# Altium integrated library Linear Technology Power Management LED Driver ICs.IntLib: 490 symbols (part 18 of 48)
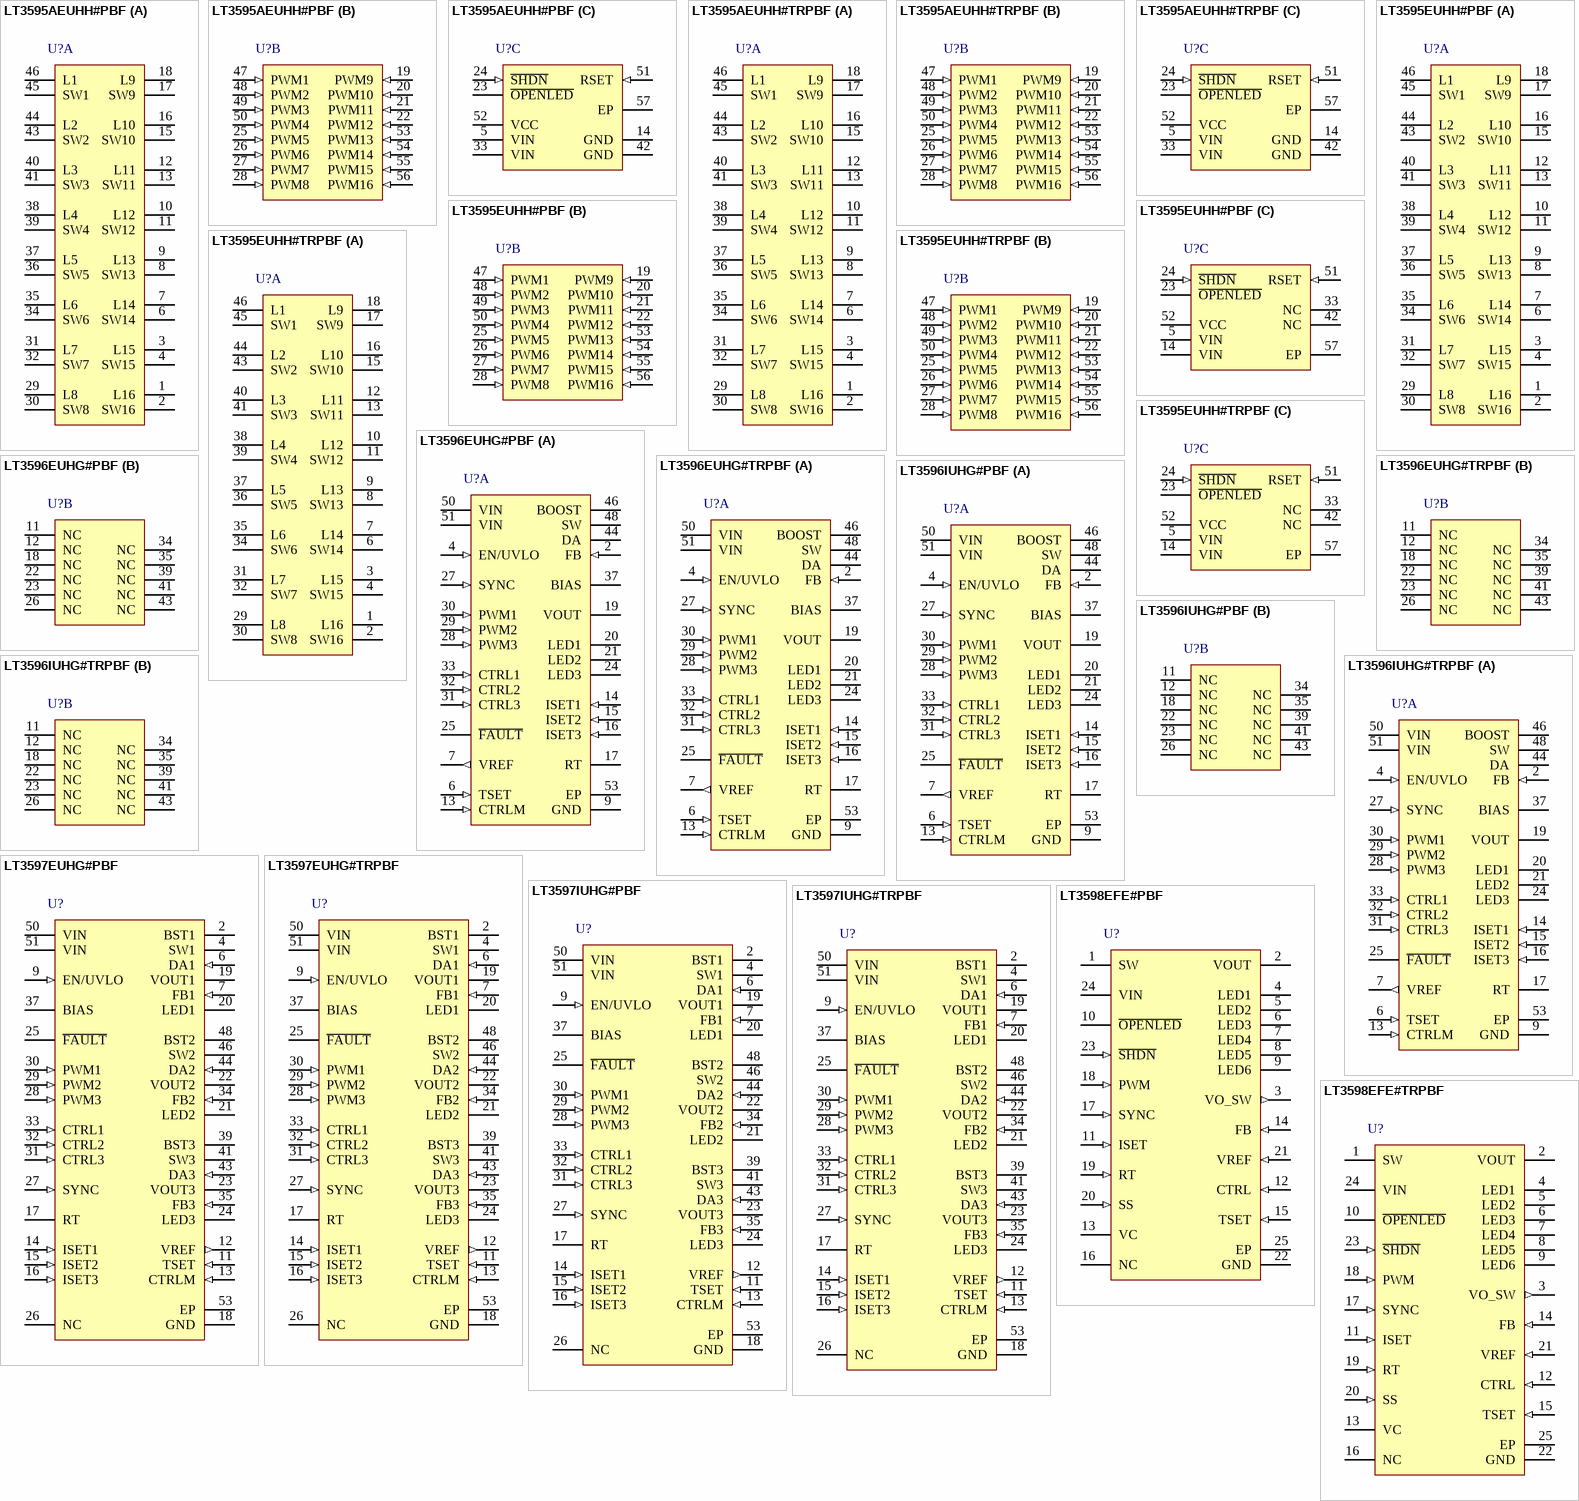
[diagram p37: symbols LT3595AEUHH#PBF to LT3598EFE#TRPBF]

## LT3596IUHG#PBF
designator U?
Step-Down LED Driver, 6 to 60 V Vin, 60 V Vout MAX, 39-pin QFN (UHG-52-V-UHG52 (39)), -40 to 125 degC, Pb-Free; Manufacturer: Linear Technology; PartNumber: LT3596IUHG#PBF; Topology: Buck, LED Driver; Vin Min(V): 6; DatasheetVersion: Rev. A; PackageVersion: Rev. B, 06/2010; PackageReference: UHG-52; PackageDescription: 39-Pin Plastic QFN, Body 5 x 8 mm; Supplier 1: Digi-Key; Supplier Part Number 1: LT3596IUHG#PBF-ND; RoHS: TRUE; Mounting Technology: Surface Mount; ComponentLink1Description: Manufacturer URL; ComponentLink1URL: http://www.linear.com/; ComponentLink2Description: Datasheet; ComponentLink2URL: http://cds.linear.com/docs/en/datasheet/3596fa.pdf; ComponentLink3Description: Package Specification; ComponentLink3URL: http://cds.linear.com/docs/en/packaging/QFN_52_05-08-1846.pdf
footprint LT-UHG-52-V-UHG52 (39)_N (QFN, 39-Leads, Body 8.1x5.1mm, Thermal Pad 5.9x2.9mm, IPC Medium Density)
footprint LT-UHG-52-V-UHG52 (39)_L (QFN, 39-Leads, Body 8.1x5.1mm, Thermal Pad 5.9x2.9mm, IPC High Density)
footprint LT-UHG-52-V-UHG52 (39)_M (QFN, 39-Leads, Body 8.1x5.1mm, Thermal Pad 5.9x2.9mm, IPC Low Density)
part A pins: 2 FB (in) "Feedback Pin. This pin is regulated to the internal bandgap voltage. The maximum buck output voltage is set by connecting this pin to a resistor divider from VOUT.", 4 EN/UVLO (in) "Enable and Undervoltage Lockout Pin. Accurate 1.5V falling threshold. UVLO threshold is programmed by using a resistor divider from VIN.", 6 TSET (in) "Thermal Regulation Pin. Programs the LT3596 junction temperature at which LED current begins to derate.", 7 VREF (out) "2V Reference Output Pin. This pin sources up to 200uA and is used to program TSET and CTRLM.", 9 GND (power) "Ground Pin. This is the ground for both the IC and the switching converter. Exposed pad must be soldered to PCB ground.", 13 CTRLM (in) "Master Control Pin. LED current derating vs temperature is achievable for all channels if the voltage on CTRLM has a negative coefficient using an external NTC resistor divider from VREF .", 14 ISET1 (in) "LED Current Programming Pin. Resistor to ground programs full-scale LED current.", 15 ISET2 (in) "LED Current Programming Pin. Resistor to ground programs full-scale LED current.", 16 ISET3 (in) "LED Current Programming Pin. Resistor to ground programs full-scale LED current.", 17 RT "Switching Frequency Programming Pin. A resistor to ground programs switching frequency between 200kHz and 1MHz. For the SYNC function, choose the resistor to program a frequency 20% slower than the SYNC pulse frequency.", 19 VOUT (power) "Buck Output. This is the buck regulator output voltage sense into the IC.", 20 LED1 (oc) "Constant-Current Sink Pin. These are three LED driver outputs, each containing an open collector, constant current sink. All outputs are matched within +/-1.5% and are individually programmed up to 100mA using an external (See Datasheet)", 21 LED2 (oc) "Constant-Current Sink Pin. These are three LED driver outputs, each containing an open collector, constant current sink. All outputs are matched within +/-1.5% and are individually programmed up to 100mA using an external (See Datasheet)", 24 LED3 (oc) "Constant-Current Sink Pin. These are three LED driver outputs, each containing an open collector, constant current sink. All outputs are matched within +/-1.5% and are individually programmed up to 100mA using an external (See Datasheet)", 25 ~{FAULT} (oc) "Fault Detection Pin. Open-collector pin used to report open LED faults. FAULT must be externally pulled to a positive supply.", 27 SYNC (in) "External Clock Synchronization Pin. When an external clock drives this pin, the buck regulator is synchronized to that frequency. Frequency programmed by the RT pin resistor must be at least 20% slower than the SYNC pin (See Datasheet)", 28 PWM3 (in) "PWM Dimming Control Pin. When driven to a logic high, the LED1-3 current sink is enabled. Channels can be individually disabled by tying PWM1-3 to ground. If PWM dimming is not desired then the pin should be connected to (See Datasheet)", 29 PWM2 (in) "PWM Dimming Control Pin. When driven to a logic high, the LED1-3 current sink is enabled. Channels can be individually disabled by tying PWM1-3 to ground. If PWM dimming is not desired then the pin should be connected to (See Datasheet)", 30 PWM1 (in) "PWM Dimming Control Pin. When driven to a logic high, the LED1-3 current sink is enabled. Channels can be individually disabled by tying PWM1-3 to ground. If PWM dimming is not desired then the pin should be connected to (See Datasheet)", 31 CTRL3 (in) "Analog Dimming Control Pin. This pin is used to dim the LED current in an analog fashion. If the pin is tied to a voltage lower than 1.0V, it will linearly reduce the LED current. If unused the pin must be connected to VREF .", 32 CTRL2 (in) "Analog Dimming Control Pin. This pin is used to dim the LED current in an analog fashion. If the pin is tied to a voltage lower than 1.0V, it will linearly reduce the LED current. If unused the pin must be connected to VREF .", 33 CTRL1 (in) "Analog Dimming Control Pin. This pin is used to dim the LED current in an analog fashion. If the pin is tied to a voltage lower than 1.0V, it will linearly reduce the LED current. If unused the pin must be connected to VREF .", 37 BIAS (power) "Supply Pin. This pin is the supply for an internal voltage regulator for analog and digital circuitry. BIAS must be locally bypassed with a 4.7uF capacitor.", 44 DA "Catch Diode Anode. This pin is used to provide frequency foldback in extreme situations.", 46 BOOST "Boost Capacitor Pin. This pin is used to provide a voltage above the input voltage when the switch is on. It supplies current to the switch driver.", 48 SW (power) "Switch Pin. Connect the inductor, catch diode and boost capacitor to this pin.", 50 VIN (power) "Input Supply Pin. Pins are electrically connected inside the package. VIN must be locally bypassed with a 10uF capacitor to ground.", 51 VIN (power) "Input Supply Pin. Pins are electrically connected inside the package. VIN must be locally bypassed with a 10uF capacitor to ground.", 53 EP (power) "Ground Pin. This is the ground for both the IC and the switching converter. Exposed pad must be soldered to PCB ground."
part B pins: 11 NC "No Connection Pins. Tie to ground if unused.", 12 NC "No Connection Pins. Tie to ground if unused.", 18 NC "No Connection Pins. Tie to ground if unused.", 22 NC "No Connection Pins. Tie to ground if unused.", 23 NC "No Connection Pins. Tie to ground if unused.", 26 NC "No Connection Pins. Tie to ground if unused.", 34 NC "No Connection Pins. Tie to ground if unused.", 35 NC "No Connection Pins. Tie to ground if unused.", 39 NC "No Connection Pins. Tie to ground if unused.", 41 NC "No Connection Pins. Tie to ground if unused.", 43 NC "No Connection Pins. Tie to ground if unused."

## LT3596IUHG#TRPBF
designator U?
Step-Down LED Driver, 6 to 60 V Vin, 60 V Vout MAX, 39-pin QFN (UHG-52-V-UHG52 (39)), -40 to 125 degC, Pb-Free, Tape and Reel; Manufacturer: Linear Technology; PartNumber: LT3596IUHG#TRPBF; Topology: Buck, LED Driver; Vin Min(V): 6; DatasheetVersion: Rev. A; PackageVersion: Rev. B, 06/2010; PackageReference: UHG-52; PackageDescription: 39-Pin Plastic QFN, Body 5 x 8 mm; Supplier 1: Digi-Key; Supplier Part Number 1: LT3596IUHG#TRPBF-ND; Packing: Tape and Reel; RoHS: TRUE; Mounting Technology: Surface Mount; ComponentLink1Description: Manufacturer URL; ComponentLink1URL: http://www.linear.com/; ComponentLink2Description: Datasheet; ComponentLink2URL: http://cds.linear.com/docs/en/datasheet/3596fa.pdf; ComponentLink3Description: Package Specification; ComponentLink3URL: http://cds.linear.com/docs/en/packaging/QFN_52_05-08-1846.pdf
footprint LT-UHG-52-V-UHG52 (39)_N (QFN, 39-Leads, Body 8.1x5.1mm, Thermal Pad 5.9x2.9mm, IPC Medium Density)
footprint LT-UHG-52-V-UHG52 (39)_L (QFN, 39-Leads, Body 8.1x5.1mm, Thermal Pad 5.9x2.9mm, IPC High Density)
footprint LT-UHG-52-V-UHG52 (39)_M (QFN, 39-Leads, Body 8.1x5.1mm, Thermal Pad 5.9x2.9mm, IPC Low Density)
part A pins: 2 FB (in) "Feedback Pin. This pin is regulated to the internal bandgap voltage. The maximum buck output voltage is set by connecting this pin to a resistor divider from VOUT.", 4 EN/UVLO (in) "Enable and Undervoltage Lockout Pin. Accurate 1.5V falling threshold. UVLO threshold is programmed by using a resistor divider from VIN.", 6 TSET (in) "Thermal Regulation Pin. Programs the LT3596 junction temperature at which LED current begins to derate.", 7 VREF (out) "2V Reference Output Pin. This pin sources up to 200uA and is used to program TSET and CTRLM.", 9 GND (power) "Ground Pin. This is the ground for both the IC and the switching converter. Exposed pad must be soldered to PCB ground.", 13 CTRLM (in) "Master Control Pin. LED current derating vs temperature is achievable for all channels if the voltage on CTRLM has a negative coefficient using an external NTC resistor divider from VREF .", 14 ISET1 (in) "LED Current Programming Pin. Resistor to ground programs full-scale LED current.", 15 ISET2 (in) "LED Current Programming Pin. Resistor to ground programs full-scale LED current.", 16 ISET3 (in) "LED Current Programming Pin. Resistor to ground programs full-scale LED current.", 17 RT "Switching Frequency Programming Pin. A resistor to ground programs switching frequency between 200kHz and 1MHz. For the SYNC function, choose the resistor to program a frequency 20% slower than the SYNC pulse frequency.", 19 VOUT (power) "Buck Output. This is the buck regulator output voltage sense into the IC.", 20 LED1 (oc) "Constant-Current Sink Pin. These are three LED driver outputs, each containing an open collector, constant current sink. All outputs are matched within +/-1.5% and are individually programmed up to 100mA using an external (See Datasheet)", 21 LED2 (oc) "Constant-Current Sink Pin. These are three LED driver outputs, each containing an open collector, constant current sink. All outputs are matched within +/-1.5% and are individually programmed up to 100mA using an external (See Datasheet)", 24 LED3 (oc) "Constant-Current Sink Pin. These are three LED driver outputs, each containing an open collector, constant current sink. All outputs are matched within +/-1.5% and are individually programmed up to 100mA using an external (See Datasheet)", 25 ~{FAULT} (oc) "Fault Detection Pin. Open-collector pin used to report open LED faults. FAULT must be externally pulled to a positive supply.", 27 SYNC (in) "External Clock Synchronization Pin. When an external clock drives this pin, the buck regulator is synchronized to that frequency. Frequency programmed by the RT pin resistor must be at least 20% slower than the SYNC pin (See Datasheet)", 28 PWM3 (in) "PWM Dimming Control Pin. When driven to a logic high, the LED1-3 current sink is enabled. Channels can be individually disabled by tying PWM1-3 to ground. If PWM dimming is not desired then the pin should be connected to (See Datasheet)", 29 PWM2 (in) "PWM Dimming Control Pin. When driven to a logic high, the LED1-3 current sink is enabled. Channels can be individually disabled by tying PWM1-3 to ground. If PWM dimming is not desired then the pin should be connected to (See Datasheet)", 30 PWM1 (in) "PWM Dimming Control Pin. When driven to a logic high, the LED1-3 current sink is enabled. Channels can be individually disabled by tying PWM1-3 to ground. If PWM dimming is not desired then the pin should be connected to (See Datasheet)", 31 CTRL3 (in) "Analog Dimming Control Pin. This pin is used to dim the LED current in an analog fashion. If the pin is tied to a voltage lower than 1.0V, it will linearly reduce the LED current. If unused the pin must be connected to VREF .", 32 CTRL2 (in) "Analog Dimming Control Pin. This pin is used to dim the LED current in an analog fashion. If the pin is tied to a voltage lower than 1.0V, it will linearly reduce the LED current. If unused the pin must be connected to VREF .", 33 CTRL1 (in) "Analog Dimming Control Pin. This pin is used to dim the LED current in an analog fashion. If the pin is tied to a voltage lower than 1.0V, it will linearly reduce the LED current. If unused the pin must be connected to VREF .", 37 BIAS (power) "Supply Pin. This pin is the supply for an internal voltage regulator for analog and digital circuitry. BIAS must be locally bypassed with a 4.7uF capacitor.", 44 DA "Catch Diode Anode. This pin is used to provide frequency foldback in extreme situations.", 46 BOOST "Boost Capacitor Pin. This pin is used to provide a voltage above the input voltage when the switch is on. It supplies current to the switch driver.", 48 SW (power) "Switch Pin. Connect the inductor, catch diode and boost capacitor to this pin.", 50 VIN (power) "Input Supply Pin. Pins are electrically connected inside the package. VIN must be locally bypassed with a 10uF capacitor to ground.", 51 VIN (power) "Input Supply Pin. Pins are electrically connected inside the package. VIN must be locally bypassed with a 10uF capacitor to ground.", 53 EP (power) "Ground Pin. This is the ground for both the IC and the switching converter. Exposed pad must be soldered to PCB ground."
part B pins: 11 NC "No Connection Pins. Tie to ground if unused.", 12 NC "No Connection Pins. Tie to ground if unused.", 18 NC "No Connection Pins. Tie to ground if unused.", 22 NC "No Connection Pins. Tie to ground if unused.", 23 NC "No Connection Pins. Tie to ground if unused.", 26 NC "No Connection Pins. Tie to ground if unused.", 34 NC "No Connection Pins. Tie to ground if unused.", 35 NC "No Connection Pins. Tie to ground if unused.", 39 NC "No Connection Pins. Tie to ground if unused.", 41 NC "No Connection Pins. Tie to ground if unused.", 43 NC "No Connection Pins. Tie to ground if unused."

## LT3597EUHG#PBF
designator U?
Triple Step-Down LED Driver, 6 to 60 V Vin, 60 V Vout MAX, 39-pin QFN (UHG-52-V-UHG52 (39)), -40 to 125 degC, Pb-Free; Manufacturer: Linear Technology; PartNumber: LT3597EUHG#PBF; Topology: Buck, LED Driver; Vin Min(V): 6; DatasheetVersion: Rev. A; PackageVersion: Rev. B, 06/2010; PackageReference: UHG-52; PackageDescription: 39-Pin Plastic QFN, Body 5 x 8 mm; Supplier 1: Digi-Key; Supplier Part Number 1: LT3597EUHG#PBF-ND; Supplier 2: Newark; Supplier Part Number 2: 59T5825; RoHS: TRUE; Mounting Technology: Surface Mount; ComponentLink1Description: Manufacturer URL; ComponentLink1URL: http://www.linear.com/; ComponentLink2Description: Datasheet; ComponentLink2URL: http://cds.linear.com/docs/en/datasheet/3597fa.pdf; ComponentLink3Description: Package Specification; ComponentLink3URL: http://cds.linear.com/docs/en/packaging/QFN_52_05-08-1846.pdf
footprint LT-UHG-52-V-UHG52 (39)_N (QFN, 39-Leads, Body 8.1x5.1mm, Thermal Pad 5.9x2.9mm, IPC Medium Density)
footprint LT-UHG-52-V-UHG52 (39)_L (QFN, 39-Leads, Body 8.1x5.1mm, Thermal Pad 5.9x2.9mm, IPC High Density)
footprint LT-UHG-52-V-UHG52 (39)_M (QFN, 39-Leads, Body 8.1x5.1mm, Thermal Pad 5.9x2.9mm, IPC Low Density)
pins: 2 BST1 "Boost Capacitor Pin. This pin is used to provide a voltage that is higher than the input voltage when the switch is on to supply current to the switch driver.", 4 SW1 (power) "Switch Pin. Connect the inductor, catch diode and boost capacitor to this pin.", 6 DA1 (in) "Catch Diode Anode. This pin is used to provide frequency foldback in extreme situations.", 7 FB1 (in) "Feedback Pin. This pin is regulated to the internal bandgap voltage. The maximum Buck output voltage can be set by connecting this pin to a resistor divider from VOUT1-3.", 9 EN/UVLO (in) "Enable and Undervoltage Lockout Pin. Accurate 1.51V threshold. UVLO threshold can be programmed by using a resistor divider from VIN. If function is not required, pin can be tied to the VIN pin.", 11 TSET (in) "Thermal Regulation Pin. Programs the LT3597 junction temperature at which LED current begins to derate.", 12 VREF (out) "2.0V Reference Output Pin. This pin can sources up to 200uA and can be used to program TSET and CTRLM.", 13 CTRLM (in) "Master Control Pin. LED current derating vs temperature is achievable for all channels if the voltage on CTRLM has a negative temperature coefficient using an external NTC resistor in a voltage divider from VREF", 14 ISET1 (in) "LED Current Programming Pin. A resistor to ground programs full-scale LED current.", 15 ISET2 (in) "LED Current Programming Pin. A resistor to ground programs full-scale LED current.", 16 ISET3 (in) "LED Current Programming Pin. A resistor to ground programs full-scale LED current.", 17 RT "Switching Frequency Programming Pin. A resistor to ground programs the switching frequency between 200kHz and 1MHz.", 18 GND (power) "Ground Pin. This is the ground for both the IC and the switching converters. Exposed pad must be soldered to PCB ground.", 19 VOUT1 (power) "Buck Output. This is the buck regulator output voltage sense into the IC.", 20 LED1 (oc) "Constant Current Sink Pin. These are 3 LED driver outputs, each containing an open collector, constant current sink. All outputs are matched within +/-2% and are individually programmed up to 100mA using an external resistor (See Datasheet)", 21 LED2 (oc) "Constant Current Sink Pin. These are 3 LED driver outputs, each containing an open collector, constant current sink. All outputs are matched within +/-2% and are individually programmed up to 100mA using an external resistor (See Datasheet)", 22 VOUT2 (power) "Buck Output. This is the buck regulator output voltage sense into the IC.", 23 VOUT3 (power) "Buck Output. This is the buck regulator output voltage sense into the IC.", 24 LED3 (oc) "Constant Current Sink Pin. These are 3 LED driver outputs, each containing an open collector, constant current sink. All outputs are matched within +/-2% and are individually programmed up to 100mA using an external resistor (See Datasheet)", 25 ~{FAULT} (oc) "Fault Detection Pin. Open collector pin used to report open LED faults. F\A\U\L\T\ must be externally pulled to a positive supply through a resistor.", 26 NC "No Connection Pin. Tie to ground.", 27 SYNC (in) "External Clock Synchronization Pin. When an external clock drives this pin, the Buck regulators are synchronized to that frequency. Frequency programmed by the RT pin resistor must be at least 20% less than the SYNC pin (See Datasheet)", 28 PWM3 (in) "PWM Dimming Control Pin. When driven to a logic high, the LED1-3 current sink is enabled. If PWM dimming is not desired, connect the pin to VREF. Channels can be individually disabled by tying PWM1-3 to ground.", 29 PWM2 (in) "PWM Dimming Control Pin. When driven to a logic high, the LED1-3 current sink is enabled. If PWM dimming is not desired, connect the pin to VREF. Channels can be individually disabled by tying PWM1-3 to ground.", 30 PWM1 (in) "PWM Dimming Control Pin. When driven to a logic high, the LED1-3 current sink is enabled. If PWM dimming is not desired, connect the pin to VREF. Channels can be individually disabled by tying PWM1-3 to ground.", 31 CTRL3 (in) "Analog Dimming Control Pin. This pin is used to dim the LED current in an analog fashion. If the pin is tied to a voltage lower than 1.0V, it will linearly reduce the LED current. If feature is unused, connect the pin to (See Datasheet)", 32 CTRL2 (in) "Analog Dimming Control Pin. This pin is used to dim the LED current in an analog fashion. If the pin is tied to a voltage lower than 1.0V, it will linearly reduce the LED current. If feature is unused, connect the pin to (See Datasheet)", 33 CTRL1 (in) "Analog Dimming Control Pin. This pin is used to dim the LED current in an analog fashion. If the pin is tied to a voltage lower than 1.0V, it will linearly reduce the LED current. If feature is unused, connect the pin to (See Datasheet)", 34 FB2 (in) "Feedback Pin. This pin is regulated to the internal bandgap voltage. The maximum Buck output voltage can be set by connecting this pin to a resistor divider from VOUT1-3.", 35 FB3 (in) "Feedback Pin. This pin is regulated to the internal bandgap voltage. The maximum Buck output voltage can be set by connecting this pin to a resistor divider from VOUT1-3.", 37 BIAS (power) "Supply Pin. This pin is the supply for an internal voltage regulator to internal analog and digital circuitry. BIAS must be locally bypassed with a 2.2uF capacitor.", 39 BST3 "Boost Capacitor Pin. This pin is used to provide a voltage that is higher than the input voltage when the switch is on to supply current to the switch driver.", 41 SW3 (power) "Switch Pin. Connect the inductor, catch diode and boost capacitor to this pin.", 43 DA3 (in) "Catch Diode Anode. This pin is used to provide frequency foldback in extreme situations.", 44 DA2 (in) "Catch Diode Anode. This pin is used to provide frequency foldback in extreme situations.", 46 SW2 (power) "Switch Pin. Connect the inductor, catch diode and boost capacitor to this pin.", 48 BST2 "Boost Capacitor Pin. This pin is used to provide a voltage that is higher than the input voltage when the switch is on to supply current to the switch driver.", 50 VIN (power) "Input Supply Pin. VIN must be locally bypassed with a 10uF capacitor to ground. Pins 50 and 51 are internally fused.", 51 VIN (power) "Input Supply Pin. VIN must be locally bypassed with a 10uF capacitor to ground. Pins 50 and 51 are internally fused.", 53 EP (power) "Ground Pin. This is the ground for both the IC and the switching converters. Exposed pad must be soldered to PCB ground."

## LT3597EUHG#TRPBF
designator U?
Triple Step-Down LED Driver, 6 to 60 V Vin, 60 V Vout MAX, 39-pin QFN (UHG-52-V-UHG52 (39)), -40 to 125 degC, Pb-Free, Tape and Reel; Manufacturer: Linear Technology; PartNumber: LT3597EUHG#TRPBF; Topology: Buck, LED Driver; Vin Min(V): 6; DatasheetVersion: Rev. A; PackageVersion: Rev. B, 06/2010; PackageReference: UHG-52; PackageDescription: 39-Pin Plastic QFN, Body 5 x 8 mm; Supplier 1: Digi-Key; Supplier Part Number 1: LT3597EUHG#TRPBF-ND; Packing: Tape and Reel; RoHS: TRUE; Mounting Technology: Surface Mount; ComponentLink1Description: Manufacturer URL; ComponentLink1URL: http://www.linear.com/; ComponentLink2Description: Datasheet; ComponentLink2URL: http://cds.linear.com/docs/en/datasheet/3597fa.pdf; ComponentLink3Description: Package Specification; ComponentLink3URL: http://cds.linear.com/docs/en/packaging/QFN_52_05-08-1846.pdf
footprint LT-UHG-52-V-UHG52 (39)_N (QFN, 39-Leads, Body 8.1x5.1mm, Thermal Pad 5.9x2.9mm, IPC Medium Density)
footprint LT-UHG-52-V-UHG52 (39)_L (QFN, 39-Leads, Body 8.1x5.1mm, Thermal Pad 5.9x2.9mm, IPC High Density)
footprint LT-UHG-52-V-UHG52 (39)_M (QFN, 39-Leads, Body 8.1x5.1mm, Thermal Pad 5.9x2.9mm, IPC Low Density)
pins: 2 BST1 "Boost Capacitor Pin. This pin is used to provide a voltage that is higher than the input voltage when the switch is on to supply current to the switch driver.", 4 SW1 (power) "Switch Pin. Connect the inductor, catch diode and boost capacitor to this pin.", 6 DA1 (in) "Catch Diode Anode. This pin is used to provide frequency foldback in extreme situations.", 7 FB1 (in) "Feedback Pin. This pin is regulated to the internal bandgap voltage. The maximum Buck output voltage can be set by connecting this pin to a resistor divider from VOUT1-3.", 9 EN/UVLO (in) "Enable and Undervoltage Lockout Pin. Accurate 1.51V threshold. UVLO threshold can be programmed by using a resistor divider from VIN. If function is not required, pin can be tied to the VIN pin.", 11 TSET (in) "Thermal Regulation Pin. Programs the LT3597 junction temperature at which LED current begins to derate.", 12 VREF (out) "2.0V Reference Output Pin. This pin can sources up to 200uA and can be used to program TSET and CTRLM.", 13 CTRLM (in) "Master Control Pin. LED current derating vs temperature is achievable for all channels if the voltage on CTRLM has a negative temperature coefficient using an external NTC resistor in a voltage divider from VREF", 14 ISET1 (in) "LED Current Programming Pin. A resistor to ground programs full-scale LED current.", 15 ISET2 (in) "LED Current Programming Pin. A resistor to ground programs full-scale LED current.", 16 ISET3 (in) "LED Current Programming Pin. A resistor to ground programs full-scale LED current.", 17 RT "Switching Frequency Programming Pin. A resistor to ground programs the switching frequency between 200kHz and 1MHz.", 18 GND (power) "Ground Pin. This is the ground for both the IC and the switching converters. Exposed pad must be soldered to PCB ground.", 19 VOUT1 (power) "Buck Output. This is the buck regulator output voltage sense into the IC.", 20 LED1 (oc) "Constant Current Sink Pin. These are 3 LED driver outputs, each containing an open collector, constant current sink. All outputs are matched within +/-2% and are individually programmed up to 100mA using an external resistor (See Datasheet)", 21 LED2 (oc) "Constant Current Sink Pin. These are 3 LED driver outputs, each containing an open collector, constant current sink. All outputs are matched within +/-2% and are individually programmed up to 100mA using an external resistor (See Datasheet)", 22 VOUT2 (power) "Buck Output. This is the buck regulator output voltage sense into the IC.", 23 VOUT3 (power) "Buck Output. This is the buck regulator output voltage sense into the IC.", 24 LED3 (oc) "Constant Current Sink Pin. These are 3 LED driver outputs, each containing an open collector, constant current sink. All outputs are matched within +/-2% and are individually programmed up to 100mA using an external resistor (See Datasheet)", 25 ~{FAULT} (oc) "Fault Detection Pin. Open collector pin used to report open LED faults. F\A\U\L\T\ must be externally pulled to a positive supply through a resistor.", 26 NC "No Connection Pin. Tie to ground.", 27 SYNC (in) "External Clock Synchronization Pin. When an external clock drives this pin, the Buck regulators are synchronized to that frequency. Frequency programmed by the RT pin resistor must be at least 20% less than the SYNC pin (See Datasheet)", 28 PWM3 (in) "PWM Dimming Control Pin. When driven to a logic high, the LED1-3 current sink is enabled. If PWM dimming is not desired, connect the pin to VREF. Channels can be individually disabled by tying PWM1-3 to ground.", 29 PWM2 (in) "PWM Dimming Control Pin. When driven to a logic high, the LED1-3 current sink is enabled. If PWM dimming is not desired, connect the pin to VREF. Channels can be individually disabled by tying PWM1-3 to ground.", 30 PWM1 (in) "PWM Dimming Control Pin. When driven to a logic high, the LED1-3 current sink is enabled. If PWM dimming is not desired, connect the pin to VREF. Channels can be individually disabled by tying PWM1-3 to ground.", 31 CTRL3 (in) "Analog Dimming Control Pin. This pin is used to dim the LED current in an analog fashion. If the pin is tied to a voltage lower than 1.0V, it will linearly reduce the LED current. If feature is unused, connect the pin to (See Datasheet)", 32 CTRL2 (in) "Analog Dimming Control Pin. This pin is used to dim the LED current in an analog fashion. If the pin is tied to a voltage lower than 1.0V, it will linearly reduce the LED current. If feature is unused, connect the pin to (See Datasheet)", 33 CTRL1 (in) "Analog Dimming Control Pin. This pin is used to dim the LED current in an analog fashion. If the pin is tied to a voltage lower than 1.0V, it will linearly reduce the LED current. If feature is unused, connect the pin to (See Datasheet)", 34 FB2 (in) "Feedback Pin. This pin is regulated to the internal bandgap voltage. The maximum Buck output voltage can be set by connecting this pin to a resistor divider from VOUT1-3.", 35 FB3 (in) "Feedback Pin. This pin is regulated to the internal bandgap voltage. The maximum Buck output voltage can be set by connecting this pin to a resistor divider from VOUT1-3.", 37 BIAS (power) "Supply Pin. This pin is the supply for an internal voltage regulator to internal analog and digital circuitry. BIAS must be locally bypassed with a 2.2uF capacitor.", 39 BST3 "Boost Capacitor Pin. This pin is used to provide a voltage that is higher than the input voltage when the switch is on to supply current to the switch driver.", 41 SW3 (power) "Switch Pin. Connect the inductor, catch diode and boost capacitor to this pin.", 43 DA3 (in) "Catch Diode Anode. This pin is used to provide frequency foldback in extreme situations.", 44 DA2 (in) "Catch Diode Anode. This pin is used to provide frequency foldback in extreme situations.", 46 SW2 (power) "Switch Pin. Connect the inductor, catch diode and boost capacitor to this pin.", 48 BST2 "Boost Capacitor Pin. This pin is used to provide a voltage that is higher than the input voltage when the switch is on to supply current to the switch driver.", 50 VIN (power) "Input Supply Pin. VIN must be locally bypassed with a 10uF capacitor to ground. Pins 50 and 51 are internally fused.", 51 VIN (power) "Input Supply Pin. VIN must be locally bypassed with a 10uF capacitor to ground. Pins 50 and 51 are internally fused.", 53 EP (power) "Ground Pin. This is the ground for both the IC and the switching converters. Exposed pad must be soldered to PCB ground."

## LT3597IUHG#PBF
designator U?
Triple Step-Down LED Driver, 6 to 60 V Vin, 60 V Vout MAX, 39-pin QFN (UHG-52-V-UHG52 (39)), -40 to 125 degC, Pb-Free; Manufacturer: Linear Technology; PartNumber: LT3597IUHG#PBF; Topology: Buck, LED Driver; Vin Min(V): 6; DatasheetVersion: Rev. A; PackageVersion: Rev. B, 06/2010; PackageReference: UHG-52; PackageDescription: 39-Pin Plastic QFN, Body 5 x 8 mm; Supplier 1: Digi-Key; Supplier Part Number 1: LT3597IUHG#PBF-ND; RoHS: TRUE; Mounting Technology: Surface Mount; ComponentLink1Description: Manufacturer URL; ComponentLink1URL: http://www.linear.com/; ComponentLink2Description: Datasheet; ComponentLink2URL: http://cds.linear.com/docs/en/datasheet/3597fa.pdf; ComponentLink3Description: Package Specification; ComponentLink3URL: http://cds.linear.com/docs/en/packaging/QFN_52_05-08-1846.pdf
footprint LT-UHG-52-V-UHG52 (39)_N (QFN, 39-Leads, Body 8.1x5.1mm, Thermal Pad 5.9x2.9mm, IPC Medium Density)
footprint LT-UHG-52-V-UHG52 (39)_L (QFN, 39-Leads, Body 8.1x5.1mm, Thermal Pad 5.9x2.9mm, IPC High Density)
footprint LT-UHG-52-V-UHG52 (39)_M (QFN, 39-Leads, Body 8.1x5.1mm, Thermal Pad 5.9x2.9mm, IPC Low Density)
pins: 2 BST1 "Boost Capacitor Pin. This pin is used to provide a voltage that is higher than the input voltage when the switch is on to supply current to the switch driver.", 4 SW1 (power) "Switch Pin. Connect the inductor, catch diode and boost capacitor to this pin.", 6 DA1 (in) "Catch Diode Anode. This pin is used to provide frequency foldback in extreme situations.", 7 FB1 (in) "Feedback Pin. This pin is regulated to the internal bandgap voltage. The maximum Buck output voltage can be set by connecting this pin to a resistor divider from VOUT1-3.", 9 EN/UVLO (in) "Enable and Undervoltage Lockout Pin. Accurate 1.51V threshold. UVLO threshold can be programmed by using a resistor divider from VIN. If function is not required, pin can be tied to the VIN pin.", 11 TSET (in) "Thermal Regulation Pin. Programs the LT3597 junction temperature at which LED current begins to derate.", 12 VREF (out) "2.0V Reference Output Pin. This pin can sources up to 200uA and can be used to program TSET and CTRLM.", 13 CTRLM (in) "Master Control Pin. LED current derating vs temperature is achievable for all channels if the voltage on CTRLM has a negative temperature coefficient using an external NTC resistor in a voltage divider from VREF", 14 ISET1 (in) "LED Current Programming Pin. A resistor to ground programs full-scale LED current.", 15 ISET2 (in) "LED Current Programming Pin. A resistor to ground programs full-scale LED current.", 16 ISET3 (in) "LED Current Programming Pin. A resistor to ground programs full-scale LED current.", 17 RT "Switching Frequency Programming Pin. A resistor to ground programs the switching frequency between 200kHz and 1MHz.", 18 GND (power) "Ground Pin. This is the ground for both the IC and the switching converters. Exposed pad must be soldered to PCB ground.", 19 VOUT1 (power) "Buck Output. This is the buck regulator output voltage sense into the IC.", 20 LED1 (oc) "Constant Current Sink Pin. These are 3 LED driver outputs, each containing an open collector, constant current sink. All outputs are matched within +/-2% and are individually programmed up to 100mA using an external resistor (See Datasheet)", 21 LED2 (oc) "Constant Current Sink Pin. These are 3 LED driver outputs, each containing an open collector, constant current sink. All outputs are matched within +/-2% and are individually programmed up to 100mA using an external resistor (See Datasheet)", 22 VOUT2 (power) "Buck Output. This is the buck regulator output voltage sense into the IC.", 23 VOUT3 (power) "Buck Output. This is the buck regulator output voltage sense into the IC.", 24 LED3 (oc) "Constant Current Sink Pin. These are 3 LED driver outputs, each containing an open collector, constant current sink. All outputs are matched within +/-2% and are individually programmed up to 100mA using an external resistor (See Datasheet)", 25 ~{FAULT} (oc) "Fault Detection Pin. Open collector pin used to report open LED faults. F\A\U\L\T\ must be externally pulled to a positive supply through a resistor.", 26 NC "No Connection Pin. Tie to ground.", 27 SYNC (in) "External Clock Synchronization Pin. When an external clock drives this pin, the Buck regulators are synchronized to that frequency. Frequency programmed by the RT pin resistor must be at least 20% less than the SYNC pin (See Datasheet)", 28 PWM3 (in) "PWM Dimming Control Pin. When driven to a logic high, the LED1-3 current sink is enabled. If PWM dimming is not desired, connect the pin to VREF. Channels can be individually disabled by tying PWM1-3 to ground.", 29 PWM2 (in) "PWM Dimming Control Pin. When driven to a logic high, the LED1-3 current sink is enabled. If PWM dimming is not desired, connect the pin to VREF. Channels can be individually disabled by tying PWM1-3 to ground.", 30 PWM1 (in) "PWM Dimming Control Pin. When driven to a logic high, the LED1-3 current sink is enabled. If PWM dimming is not desired, connect the pin to VREF. Channels can be individually disabled by tying PWM1-3 to ground.", 31 CTRL3 (in) "Analog Dimming Control Pin. This pin is used to dim the LED current in an analog fashion. If the pin is tied to a voltage lower than 1.0V, it will linearly reduce the LED current. If feature is unused, connect the pin to (See Datasheet)", 32 CTRL2 (in) "Analog Dimming Control Pin. This pin is used to dim the LED current in an analog fashion. If the pin is tied to a voltage lower than 1.0V, it will linearly reduce the LED current. If feature is unused, connect the pin to (See Datasheet)", 33 CTRL1 (in) "Analog Dimming Control Pin. This pin is used to dim the LED current in an analog fashion. If the pin is tied to a voltage lower than 1.0V, it will linearly reduce the LED current. If feature is unused, connect the pin to (See Datasheet)", 34 FB2 (in) "Feedback Pin. This pin is regulated to the internal bandgap voltage. The maximum Buck output voltage can be set by connecting this pin to a resistor divider from VOUT1-3.", 35 FB3 (in) "Feedback Pin. This pin is regulated to the internal bandgap voltage. The maximum Buck output voltage can be set by connecting this pin to a resistor divider from VOUT1-3.", 37 BIAS (power) "Supply Pin. This pin is the supply for an internal voltage regulator to internal analog and digital circuitry. BIAS must be locally bypassed with a 2.2uF capacitor.", 39 BST3 "Boost Capacitor Pin. This pin is used to provide a voltage that is higher than the input voltage when the switch is on to supply current to the switch driver.", 41 SW3 (power) "Switch Pin. Connect the inductor, catch diode and boost capacitor to this pin.", 43 DA3 (in) "Catch Diode Anode. This pin is used to provide frequency foldback in extreme situations.", 44 DA2 (in) "Catch Diode Anode. This pin is used to provide frequency foldback in extreme situations.", 46 SW2 (power) "Switch Pin. Connect the inductor, catch diode and boost capacitor to this pin.", 48 BST2 "Boost Capacitor Pin. This pin is used to provide a voltage that is higher than the input voltage when the switch is on to supply current to the switch driver.", 50 VIN (power) "Input Supply Pin. VIN must be locally bypassed with a 10uF capacitor to ground. Pins 50 and 51 are internally fused.", 51 VIN (power) "Input Supply Pin. VIN must be locally bypassed with a 10uF capacitor to ground. Pins 50 and 51 are internally fused.", 53 EP (power) "Ground Pin. This is the ground for both the IC and the switching converters. Exposed pad must be soldered to PCB ground."

## LT3597IUHG#TRPBF
designator U?
Triple Step-Down LED Driver, 6 to 60 V Vin, 60 V Vout MAX, 39-pin QFN (UHG-52-V-UHG52 (39)), -40 to 125 degC, Pb-Free, Tape and Reel; Manufacturer: Linear Technology; PartNumber: LT3597IUHG#TRPBF; Topology: Buck, LED Driver; Vin Min(V): 6; DatasheetVersion: Rev. A; PackageVersion: Rev. B, 06/2010; PackageReference: UHG-52; PackageDescription: 39-Pin Plastic QFN, Body 5 x 8 mm; Supplier 1: Digi-Key; Supplier Part Number 1: LT3597IUHG#TRPBF-ND; Packing: Tape and Reel; RoHS: TRUE; Mounting Technology: Surface Mount; ComponentLink1Description: Manufacturer URL; ComponentLink1URL: http://www.linear.com/; ComponentLink2Description: Datasheet; ComponentLink2URL: http://cds.linear.com/docs/en/datasheet/3597fa.pdf; ComponentLink3Description: Package Specification; ComponentLink3URL: http://cds.linear.com/docs/en/packaging/QFN_52_05-08-1846.pdf
footprint LT-UHG-52-V-UHG52 (39)_N (QFN, 39-Leads, Body 8.1x5.1mm, Thermal Pad 5.9x2.9mm, IPC Medium Density)
footprint LT-UHG-52-V-UHG52 (39)_L (QFN, 39-Leads, Body 8.1x5.1mm, Thermal Pad 5.9x2.9mm, IPC High Density)
footprint LT-UHG-52-V-UHG52 (39)_M (QFN, 39-Leads, Body 8.1x5.1mm, Thermal Pad 5.9x2.9mm, IPC Low Density)
pins: 2 BST1 "Boost Capacitor Pin. This pin is used to provide a voltage that is higher than the input voltage when the switch is on to supply current to the switch driver.", 4 SW1 (power) "Switch Pin. Connect the inductor, catch diode and boost capacitor to this pin.", 6 DA1 (in) "Catch Diode Anode. This pin is used to provide frequency foldback in extreme situations.", 7 FB1 (in) "Feedback Pin. This pin is regulated to the internal bandgap voltage. The maximum Buck output voltage can be set by connecting this pin to a resistor divider from VOUT1-3.", 9 EN/UVLO (in) "Enable and Undervoltage Lockout Pin. Accurate 1.51V threshold. UVLO threshold can be programmed by using a resistor divider from VIN. If function is not required, pin can be tied to the VIN pin.", 11 TSET (in) "Thermal Regulation Pin. Programs the LT3597 junction temperature at which LED current begins to derate.", 12 VREF (out) "2.0V Reference Output Pin. This pin can sources up to 200uA and can be used to program TSET and CTRLM.", 13 CTRLM (in) "Master Control Pin. LED current derating vs temperature is achievable for all channels if the voltage on CTRLM has a negative temperature coefficient using an external NTC resistor in a voltage divider from VREF", 14 ISET1 (in) "LED Current Programming Pin. A resistor to ground programs full-scale LED current.", 15 ISET2 (in) "LED Current Programming Pin. A resistor to ground programs full-scale LED current.", 16 ISET3 (in) "LED Current Programming Pin. A resistor to ground programs full-scale LED current.", 17 RT "Switching Frequency Programming Pin. A resistor to ground programs the switching frequency between 200kHz and 1MHz.", 18 GND (power) "Ground Pin. This is the ground for both the IC and the switching converters. Exposed pad must be soldered to PCB ground.", 19 VOUT1 (power) "Buck Output. This is the buck regulator output voltage sense into the IC.", 20 LED1 (oc) "Constant Current Sink Pin. These are 3 LED driver outputs, each containing an open collector, constant current sink. All outputs are matched within +/-2% and are individually programmed up to 100mA using an external resistor (See Datasheet)", 21 LED2 (oc) "Constant Current Sink Pin. These are 3 LED driver outputs, each containing an open collector, constant current sink. All outputs are matched within +/-2% and are individually programmed up to 100mA using an external resistor (See Datasheet)", 22 VOUT2 (power) "Buck Output. This is the buck regulator output voltage sense into the IC.", 23 VOUT3 (power) "Buck Output. This is the buck regulator output voltage sense into the IC.", 24 LED3 (oc) "Constant Current Sink Pin. These are 3 LED driver outputs, each containing an open collector, constant current sink. All outputs are matched within +/-2% and are individually programmed up to 100mA using an external resistor (See Datasheet)", 25 ~{FAULT} (oc) "Fault Detection Pin. Open collector pin used to report open LED faults. F\A\U\L\T\ must be externally pulled to a positive supply through a resistor.", 26 NC "No Connection Pin. Tie to ground.", 27 SYNC (in) "External Clock Synchronization Pin. When an external clock drives this pin, the Buck regulators are synchronized to that frequency. Frequency programmed by the RT pin resistor must be at least 20% less than the SYNC pin (See Datasheet)", 28 PWM3 (in) "PWM Dimming Control Pin. When driven to a logic high, the LED1-3 current sink is enabled. If PWM dimming is not desired, connect the pin to VREF. Channels can be individually disabled by tying PWM1-3 to ground.", 29 PWM2 (in) "PWM Dimming Control Pin. When driven to a logic high, the LED1-3 current sink is enabled. If PWM dimming is not desired, connect the pin to VREF. Channels can be individually disabled by tying PWM1-3 to ground.", 30 PWM1 (in) "PWM Dimming Control Pin. When driven to a logic high, the LED1-3 current sink is enabled. If PWM dimming is not desired, connect the pin to VREF. Channels can be individually disabled by tying PWM1-3 to ground.", 31 CTRL3 (in) "Analog Dimming Control Pin. This pin is used to dim the LED current in an analog fashion. If the pin is tied to a voltage lower than 1.0V, it will linearly reduce the LED current. If feature is unused, connect the pin to (See Datasheet)", 32 CTRL2 (in) "Analog Dimming Control Pin. This pin is used to dim the LED current in an analog fashion. If the pin is tied to a voltage lower than 1.0V, it will linearly reduce the LED current. If feature is unused, connect the pin to (See Datasheet)", 33 CTRL1 (in) "Analog Dimming Control Pin. This pin is used to dim the LED current in an analog fashion. If the pin is tied to a voltage lower than 1.0V, it will linearly reduce the LED current. If feature is unused, connect the pin to (See Datasheet)", 34 FB2 (in) "Feedback Pin. This pin is regulated to the internal bandgap voltage. The maximum Buck output voltage can be set by connecting this pin to a resistor divider from VOUT1-3.", 35 FB3 (in) "Feedback Pin. This pin is regulated to the internal bandgap voltage. The maximum Buck output voltage can be set by connecting this pin to a resistor divider from VOUT1-3.", 37 BIAS (power) "Supply Pin. This pin is the supply for an internal voltage regulator to internal analog and digital circuitry. BIAS must be locally bypassed with a 2.2uF capacitor.", 39 BST3 "Boost Capacitor Pin. This pin is used to provide a voltage that is higher than the input voltage when the switch is on to supply current to the switch driver.", 41 SW3 (power) "Switch Pin. Connect the inductor, catch diode and boost capacitor to this pin.", 43 DA3 (in) "Catch Diode Anode. This pin is used to provide frequency foldback in extreme situations.", 44 DA2 (in) "Catch Diode Anode. This pin is used to provide frequency foldback in extreme situations.", 46 SW2 (power) "Switch Pin. Connect the inductor, catch diode and boost capacitor to this pin.", 48 BST2 "Boost Capacitor Pin. This pin is used to provide a voltage that is higher than the input voltage when the switch is on to supply current to the switch driver.", 50 VIN (power) "Input Supply Pin. VIN must be locally bypassed with a 10uF capacitor to ground. Pins 50 and 51 are internally fused.", 51 VIN (power) "Input Supply Pin. VIN must be locally bypassed with a 10uF capacitor to ground. Pins 50 and 51 are internally fused.", 53 EP (power) "Ground Pin. This is the ground for both the IC and the switching converters. Exposed pad must be soldered to PCB ground."

## LT3598EFE#PBF
designator U?
6-String 30 mA LED Driver with 1.5% Current Matching, 3.2 to 30 V Vin, 44 V Vout MAX, 24-pin SOP (FE-24-EPV-AA), -40 to 125 degC, Pb-Free; Manufacturer: Linear Technology; PartNumber: LT3598EFE#PBF; Topology: Boost, Sepic, LED Driver; Vin Min(V): 3.2; DatasheetVersion: Rev. B; PackageVersion: Rev. B, 09/2010; PackageReference: FE-24; PackageDescription: 24-Pin Plastic TSSOP, Body 7.8 x 4.4 mm, Pitch 0.65 mm; Supplier 1: Digi-Key; Supplier Part Number 1: LT3598EFE#PBF-ND; Supplier 2: Farnell; Supplier Part Number 2: 2294852; Supplier 3: Newark; Supplier Part Number 3: 05R7689; RoHS: TRUE; Mounting Technology: Surface Mount; ComponentLink1Description: Manufacturer URL; ComponentLink1URL: http://www.linear.com/; ComponentLink2Description: Datasheet; ComponentLink2URL: http://cds.linear.com/docs/en/datasheet/3598fb.pdf; ComponentLink3Description: Package Specification; ComponentLink3URL: http://cds.linear.com/docs/en/packaging/TSSOP_24_05-08-1771.pdf
footprint LT-FE-24-EPV-AA_N (SOP, 24-Leads, Body 7.9x4.5mm, Pitch 0.65mm, Thermal Pad 2.74x3.25mm, IPC Medium Density)
footprint LT-FE-24-EPV-AA_L (SOP, 24-Leads, Body 7.9x4.5mm, Pitch 0.65mm, Thermal Pad 2.74x3.25mm, IPC High Density)
footprint LT-FE-24-EPV-AA_M (SOP, 24-Leads, Body 7.9x4.5mm, Pitch 0.65mm, Thermal Pad 2.74x3.25mm, IPC Low Density)
pins: 1 SW (power) "Switch Pin. This is the collector of the internal NPN power switch. Minimize the metal trace area connected to this pin to minimize EMI.", 2 VOUT (power) "Output Pin. This pin provides power to all LEDs.", 3 VO_SW (out) "Drain of an Internal PMOS. The internal PMOS disconnects the feedback resistors from the VOUT pin during shutdown and the PWM transitioned to low.", 4 LED1 (power) "LED String Output. Connect the bottom cathode of each LED string to these pins. Tie pins to VOUT if the string is not used.", 5 LED2 (power) "LED String Output. Connect the bottom cathode of each LED string to these pins. Tie pins to VOUT if the string is not used.", 6 LED3 (power) "LED String Output. Connect the bottom cathode of each LED string to these pins. Tie pins to VOUT if the string is not used.", 7 LED4 (power) "LED String Output. Connect the bottom cathode of each LED string to these pins. Tie pins to VOUT if the string is not used.", 8 LED5 (power) "LED String Output. Connect the bottom cathode of each LED string to these pins. Tie pins to VOUT if the string is not used.", 9 LED6 (power) "LED String Output. Connect the bottom cathode of each LED string to these pins. Tie pins to VOUT if the string is not used.", 10 ~{OPENLED} (oc) "Open LED Flag When Any LED String Opens. The output is open-collector. Tie a resistor to other supply for open LED fl ag function.", 11 ISET (in) "Programs LED Current for Each String. Connect a 14.7k resistor between ISET and GND to program each LED string current to 20mA. A 47pF capacitor on the ISET pin reduces current ripple in each LED string.", 12 CTRL (in) "LED Current Control. If the CTRL pin is not used, tie this pin to VREF through a 10k to 20k resistor.", 13 VC "Error Amplifier Output Pin. Tie the external compensation network to this pin.", 14 FB (in) "Feedback Pin for Overvoltage Protection. Reference voltage is 1.230V. Connect the resistive divider tap here. Minimize trace area at FB. Set VOUT according to VOUT = 1.230(1 + R2/R1) when overvoltage protection occurs (see (See Datasheet)", 15 TSET (in) "An external resistor divider from VREF programs a decrease in LED current versus internal junction temperature (setting temperature breakpoint and slope). If the TSET pin is not used, tie this pin to VREF.", 16 NC "No Connection.", 17 SYNC (in) "Frequency Synchronization Pin. This input allows for synchronizing the operating frequency to an external clock. The RT resistor should be chosen to program a switching frequency 20% slower than SYNC pulse frequency. This (See Datasheet)", 18 PWM (in) "Input Pin for PWM Dimming Control. Above 1V allows converter switching and below 0.4V disables switching with VC pin level maintained. A PWM signal driving the PWM pin provides accurate dimming control. The PWM signal can be (See Datasheet)", 19 RT (in) "A resistor to ground programs switching frequency between 200kHz and 2.5MHz. For SYNC function, choose the resistor to program a frequency 20% slower than the SYNC pulse frequency. Do not leave this pin open.", 20 SS (in) "Soft-Start Pin. Place a soft-start capacitor here. Upon start-up, a 10uA current charges the capacitor. Use a larger capacitor for slower start-up. Leave open if not used.", 21 VREF (in) "Bandgap Voltage Reference. Internally set to 1.230V. This pin can supply up to 100uA. Can be used to program the CTRL pin voltage using resistor dividers to ground.", 22 GND (power) "Ground. Tie directly to local ground plane.", 23 ~{SHDN} (in) "Shutdown Pin. Tie to 1.6V or more to enable the device. Tie below 0.4V or less to disable device. Do not fl oat this pin.", 24 VIN (power) "Input Supply Pin. Must be locally bypassed with a capacitor to ground.", 25 EP (power) "Ground. The Exposed Pad must be soldered to the PCB"